# Altium schematic symbol library dungvh03-CERN_Logic.SchLib: 486 symbols (part 18 of 54)
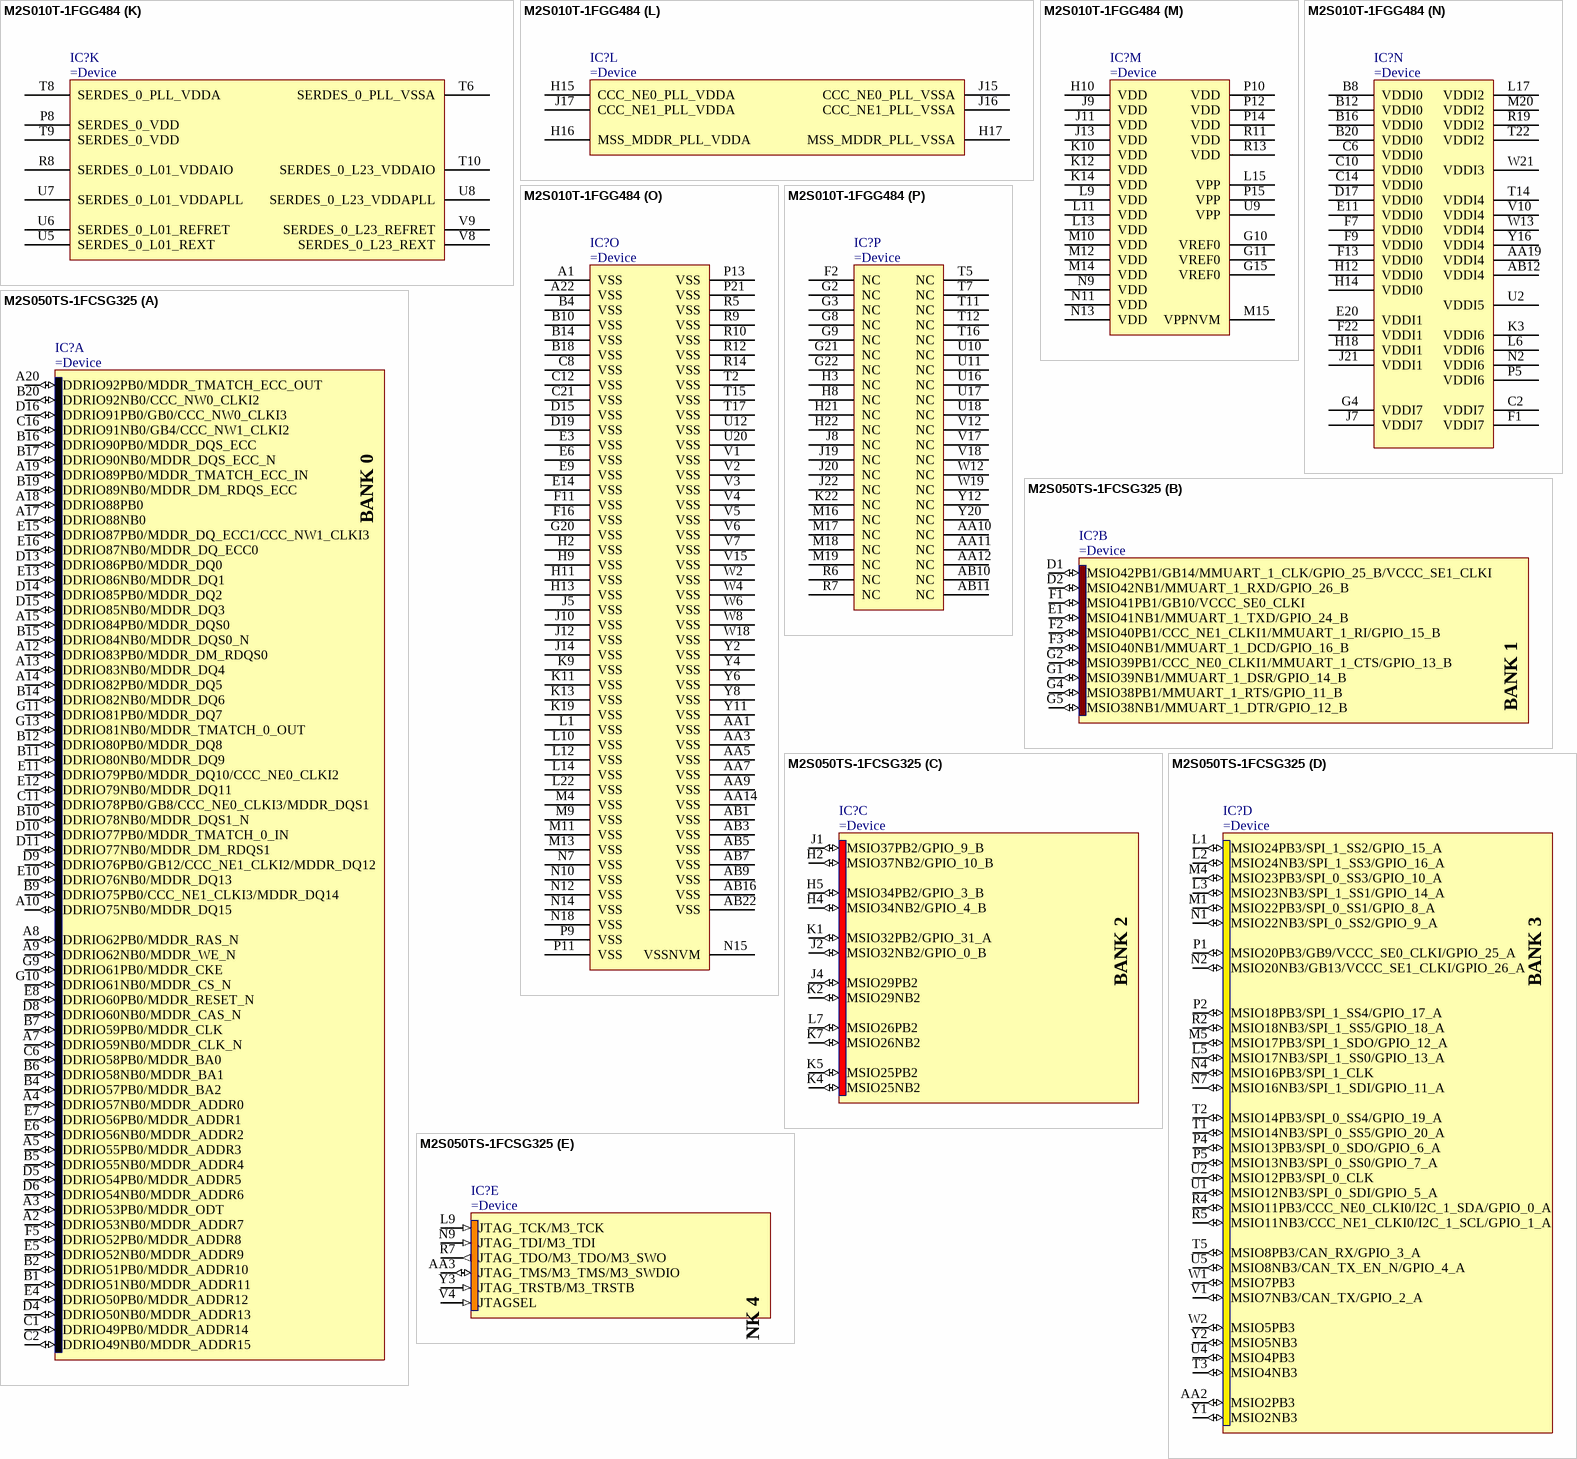
[diagram p278: symbols M2S010T-1FGG484 to M2S050TS-1FCSG325]
## M2S010T-1FGG484
designator IC?
SmartFusion 2 SoC FPGA, ARM Cortex-M3, 10 K LUTs, 233 User I/O, Transceiver Available, Design Security, Speed Grade 1, 0 to 85 degC, RoHS
part A pins: A3 DDRIO63NB0 (io) "The double data input output (DDRIO) is a multi-standard I/O optimized for LPDDR/DDR2/DDR3 performance. In SmartFusion2 devices there are two DDR subsystems: the fabric DDR and MSS DDR controllers. All DDRIOs can be (See Datasheet)", A4 DDRIO63PB0 (io) "The double data input output (DDRIO) is a multi-standard I/O optimized for LPDDR/DDR2/DDR3 performance. In SmartFusion2 devices there are two DDR subsystems: the fabric DDR and MSS DDR controllers. All DDRIOs can be (See Datasheet)", A5 DDRIO62NB0 (io) "The double data input output (DDRIO) is a multi-standard I/O optimized for LPDDR/DDR2/DDR3 performance. In SmartFusion2 devices there are two DDR subsystems: the fabric DDR and MSS DDR controllers. All DDRIOs can be (See Datasheet)", A6 DDRIO59NB0/GB4 (io), A7 DDRIO56PB0/MDDR_DQ_ECC1 (io), A8 DDRIO56NB0/MDDR_DQ_ECC0 (io), A9 DDRIO54NB0/MDDR_DQ1 (io), A10 DDRIO51PB0/MDDR_DM_RDQS0 (io), A11 DDRIO51NB0/MDDR_DQ4 (io), A12 DDRIO48PB0/MDDR_DQ8 (io), A13 DDRIO48NB0/MDDR_DQ9 (io), A14 DDRIO44PB0/MDDR_DQ12 (io), A15 DDRIO44NB0/MDDR_DQ13 (io), A16 DDRIO39PB0/MDDR_CLK (io), A17 DDRIO39NB0/MDDR_CLK_N (io), A18 DDRIO38PB0/MDDR_BA0 (io), A19 DDRIO38NB0/MDDR_BA1 (io), A20 DDRIO34NB0/MDDR_ADDR6 (io), A21 DDRIO31PB0/MDDR_ADDR10 (io), B5 DDRIO62PB0 (io) "The double data input output (DDRIO) is a multi-standard I/O optimized for LPDDR/DDR2/DDR3 performance. In SmartFusion2 devices there are two DDR subsystems: the fabric DDR and MSS DDR controllers. All DDRIOs can be (See Datasheet)", B6 DDRIO59PB0/GB0 (io), B7 DDRIO58NB0/MDDR_DQS_ECC_N (io), B9 DDRIO54PB0/MDDR_DQ0 (io), B11 DDRIO52PB0/MDDR_DQS0 (io), B13 DDRIO46PB0/MDDR_DQS1 (io), B15 DDRIO41PB0/MDDR_CKE (io), B17 DDRIO37NB0/MDDR_ADDR0 (io), B19 DDRIO34PB0/MDDR_ADDR5 (io), B21 DDRIO31NB0/MDDR_ADDR11 (io), C5 DDRIO61PB0 (io) "The double data input output (DDRIO) is a multi-standard I/O optimized for LPDDR/DDR2/DDR3 performance. In SmartFusion2 devices there are two DDR subsystems: the fabric DDR and MSS DDR controllers. All DDRIOs can be (See Datasheet)", C7 DDRIO58PB0/MDDR_DQS_ECC (io), C9 DDRIO55NB0 (io) "The double data input output (DDRIO) is a multi-standard I/O optimized for LPDDR/DDR2/DDR3 performance. In SmartFusion2 devices there are two DDR subsystems: the fabric DDR and MSS DDR controllers. All DDRIOs can be (See Datasheet)", C11 DDRIO52NB0/MDDR_DQS0_N (io), C13 DDRIO46NB0/MDDR_DQS1_N (io), C15 DDRIO41NB0/MDDR_CS_N (io), C16 DDRIO37PB0/MDDR_BA2 (io), C17 DDRIO35PB0/MDDR_ADDR3 (io), C18 DDRIO35NB0/MDDR_ADDR4 (io), C19 DDRIO33NB0/MDDR_ADDR7 (io), C20 DDRIO33PB0/MDDR_ODT (io), D6 DDRIO61NB0 (io) "The double data input output (DDRIO) is a multi-standard I/O optimized for LPDDR/DDR2/DDR3 performance. In SmartFusion2 devices there are two DDR subsystems: the fabric DDR and MSS DDR controllers. All DDRIOs can be (See Datasheet)", D8 DDRIO57NB0/MDDR_DM_RDQS_ECC (io), D9 DDRIO55PB0/CCC_NE0_CLKI3 (io), D10 DDRIO50PB0/MDDR_DQ5 (io), D11 DDRIO50NB0/MDDR_DQ6 (io), D12 DDRIO47PB0/MDDR_DQ10 (io), D13 DDRIO47NB0/MDDR_DQ11 (io), D14 DDRIO43PB0/MDDR_DQ14 (io), D16 DDRIO36PB0/MDDR_ADDR1 (io), D18 DDRIO29PB0/MDDR_ADDR14 (io), D20 DDRIO30NB0/MDDR_ADDR13 (io), E7 DDRIO60PB0/MDDR_TMATCH_ECC_OUT (io), E8 DDRIO57PB0/MDDR_TMATCH_ECC_IN (io), E10 DDRIO53NB0/MDDR_DQ3 (io), E12 DDRIO49PB0/MDDR_DQ7 (io), E13 DDRIO43NB0/MDDR_DQ15 (io), E15 DDRIO40PB0/MDDR_RESET_N (io), E16 DDRIO36NB0/MDDR_ADDR2 (io), E17 DDRIO32PB0/MDDR_ADDR8 (io), E18 DDRIO29NB0/MDDR_ADDR15 (io), E19 DDRIO30PB0/MDDR_ADDR12 (io), F8 DDRIO60NB0/CCC_NE1_CLKI3 (io), F10 DDRIO53PB0/MDDR_DQ2 (io), F12 DDRIO49NB0/MDDR_TMATCH_0_OUT (io), F14 DDRIO42PB0/MDDR_RAS_N (io), F15 DDRIO40NB0/MDDR_CAS_N (io), F17 DDRIO32NB0/MDDR_ADDR9 (io), G12 DDRIO45PB0/MDDR_TMATCH_0_IN (io), G13 DDRIO45NB0/MDDR_DM_RDQS1 (io), G14 DDRIO42NB0/MDDR_WE_N (io)
part B pins: B22 MSIO27NB1/MMUART_0_CLK/GPIO_29_B/USB_NXT_C (io), C22 MSIO27PB1/MMUART_0_RXD/GPIO_28_B/USB_STP_C (io), D21 MSI26NB1/MMUART_0_TXD/GPIO_27_B/USB_DIR_C (io), E21 MSIO25NB1/MMUART_0_DCD/GPIO_22_B (io), E22 MSIO25PB1/MMUART_0_RI/GPIO_21_B (io), F18 MSIO24NB1/MMUART_0_DSR/GPIO_20_B (io), F19 MSIO24PB1/MMUART_0_CTS/GPIO_19_B/USB_DATA7_C (io), F20 MSIO23NB1/MMUART_0_DTR/GPIO_18_B/USB_DATA6_C (io), F21 MSIO23PB1/MMUART_0_RTS/GPIO_17_B/USB_DATA5_C (io), G16 MSIO28NB1/I2C_0_SCL/GPIO_31_B/USB_DATA1_C (io), G17 MSIO28PB1/I2C_0_SDA/GPIO_30_B/USB_DATA0_C (io), G18 MSIO22NB1/MMUART_1_RXD/GPIO_26_B/USB_DATA3_C (io), G19 MSIO22PB1/GB6/MMUART_1_CLK/GPIO_25_B/USB_DATA4_C (io), H19 MSIO21NB1/MMUART_1_TXD/GPIO_24_B/USB_DATA2_C (io), H20 MSIO21PB1/GB5/USB_XCLK_C (io)
part C pins: J18 MSIO20NB2/SPI_1_SS3/GPIO_16_A (io), K15 MSIO18NB2/SPI_0_SS2/GPIO_9_A/USB_DATA6_A (io), K16 MSIO19NB2/SPI_1_SS1/GPIO_14_A (io), K17 MSIO19PB2/SPI_0_SS3/GPIO_10_A/USB_DATA7_A (io), K18 MSIO20PB2/SPI_1_SS2/GPIO_15_A (io), K20 MSIO17NB2/SPI_1_SS7/GPIO_24_A (io), K21 MSIO17PB2/SPI_1_SS6/GPIO_23_A (io), L16 MSIO18PB2/SPI_0_SS1/GPIO_8_A/USB_DATA5_A (io), L18 MSIO16NB2/SPI_1_SS5/GPIO_18_A (io), L19 MSIO16PB2/SPI_1_SS4/GPIO_17_A (io), L20 MSIO15NB2/SPI_1_SS0/GPIO_13_A (io), L21 MSIO15PB2/SPI_1_SDO/GPIO_12_A (io), M21 MSIO14PB2/SPI_1_CLK (io), M22 MSIO14NB2/SPI_1_SDI/GPIO_11_A (io), N16 MSIO8PB2/CAN_RX/GPIO_3_A/USB_DATA1_A (io), N17 MSIO8NB2/CAN_TX_EN_N/GPIO_4_A/USB_DATA2_A (io), N19 MSIO12PB2/SPI_0_CLK/USB_XCLK_A (io), N20 MSIO12NB2/SPI_0_SDI/GPIO_5_A/USB_DIR_A (io), N21 MSIO13PB2/SPI_0_SDO/GPIO_6_A/USB_STP_A (io), N22 MSIO13NB2/SPI_0_SS0/GPIO_7_A/USB_NXT_A (io), P16 MSIO7NB2/CAN_TX/GPIO_2_A/USB_DATA0_A (io), P17 MSIO6PB2/USB_DATA6_B (io), P18 MSIO6NB2 (io) "MSIOs provide programmable drive strength, weak pull-up, and weak-pulldown.In single ended mode, the I/O pair operates as two separate I/Os named P and N. Some of these pins are also multiplexed with integrated peripherals (See Datasheet)", P22 MSIO11PB2/CCC_NE0_CLKI1/I2C_1_SDA/GPIO_0_A/USB_DATA3_A (io), R16 MSIO7PB2 (io) "MSIOs provide programmable drive strength, weak pull-up, and weak-pulldown.In single ended mode, the I/O pair operates as two separate I/Os named P and N. Some of these pins are also multiplexed with integrated peripherals (See Datasheet)", R17 MSIO1PB2/USB_XCLK_B (io), R18 MSIO1NB2/USB_DIR_B (io), R22 MSIO11NB2/CCC_NE0_CLKI2/I2C_1_SCL/GPIO_1_A/USB_DATA4_A (io), T18 MSIO2PB2/USB_STP_B (io), T19 MSIO2NB2/USB_NXT_B (io), T20 MSIO5PB2/USB_DATA4_B (io), T21 MSIO5NB2/USB_DATA5_B (io), U19 MSIO0PB2 (io) "MSIOs provide programmable drive strength, weak pull-up, and weak-pulldown.In single ended mode, the I/O pair operates as two separate I/Os named P and N. Some of these pins are also multiplexed with integrated peripherals (See Datasheet)", U21 MSIO4NB2/USB_DATA3_B (io), U22 MSIO4PB2/USB_DATA2_B (io), V19 MSIO0NB2/USB_DATA7_B (io), V21 MSIO3NB2/USB_DATA1_B (io), V22 MSIO3PB2/USB_DATA0_B (io)
part D pins: AA13 MSIO106PB4 (io) "MSIOs provide programmable drive strength, weak pull-up, and weak-pulldown.In single ended mode, the I/O pair operates as two separate I/Os named P and N. Some of these pins are also multiplexed with integrated peripherals (See Datasheet)", AA15 MSIO110NB4 (io) "MSIOs provide programmable drive strength, weak pull-up, and weak-pulldown.In single ended mode, the I/O pair operates as two separate I/Os named P and N. Some of these pins are also multiplexed with integrated peripherals (See Datasheet)", AA16 MSIO114PB4 (io) "MSIOs provide programmable drive strength, weak pull-up, and weak-pulldown.In single ended mode, the I/O pair operates as two separate I/Os named P and N. Some of these pins are also multiplexed with integrated peripherals (See Datasheet)", AA17 MSIO114NB4 (io) "MSIOs provide programmable drive strength, weak pull-up, and weak-pulldown.In single ended mode, the I/O pair operates as two separate I/Os named P and N. Some of these pins are also multiplexed with integrated peripherals (See Datasheet)", AA18 MSIO113NB4 (io) "MSIOs provide programmable drive strength, weak pull-up, and weak-pulldown.In single ended mode, the I/O pair operates as two separate I/Os named P and N. Some of these pins are also multiplexed with integrated peripherals (See Datasheet)", AB13 MSIO105PB4/CCC_NE0_CLKI0 (io), AB14 MSIO105NB4 (io) "MSIOs provide programmable drive strength, weak pull-up, and weak-pulldown.In single ended mode, the I/O pair operates as two separate I/Os named P and N. Some of these pins are also multiplexed with integrated peripherals (See Datasheet)", AB15 MSIO110PB4 (io) "MSIOs provide programmable drive strength, weak pull-up, and weak-pulldown.In single ended mode, the I/O pair operates as two separate I/Os named P and N. Some of these pins are also multiplexed with integrated peripherals (See Datasheet)", AB17 MSIO113PB4 (io) "MSIOs provide programmable drive strength, weak pull-up, and weak-pulldown.In single ended mode, the I/O pair operates as two separate I/Os named P and N. Some of these pins are also multiplexed with integrated peripherals (See Datasheet)", AB18 MSIO118PB4 (io) "MSIOs provide programmable drive strength, weak pull-up, and weak-pulldown.In single ended mode, the I/O pair operates as two separate I/Os named P and N. Some of these pins are also multiplexed with integrated peripherals (See Datasheet)", AB19 MSIO118NB4 (io) "MSIOs provide programmable drive strength, weak pull-up, and weak-pulldown.In single ended mode, the I/O pair operates as two separate I/Os named P and N. Some of these pins are also multiplexed with integrated peripherals (See Datasheet)", T13 MSIO107NB4 (io) "MSIOs provide programmable drive strength, weak pull-up, and weak-pulldown.In single ended mode, the I/O pair operates as two separate I/Os named P and N. Some of these pins are also multiplexed with integrated peripherals (See Datasheet)", U13 MSIO107PB4 (io) "MSIOs provide programmable drive strength, weak pull-up, and weak-pulldown.In single ended mode, the I/O pair operates as two separate I/Os named P and N. Some of these pins are also multiplexed with integrated peripherals (See Datasheet)", U14 MSIO112PB4 (io) "MSIOs provide programmable drive strength, weak pull-up, and weak-pulldown.In single ended mode, the I/O pair operates as two separate I/Os named P and N. Some of these pins are also multiplexed with integrated peripherals (See Datasheet)", U15 MSIO112NB4 (io) "MSIOs provide programmable drive strength, weak pull-up, and weak-pulldown.In single ended mode, the I/O pair operates as two separate I/Os named P and N. Some of these pins are also multiplexed with integrated peripherals (See Datasheet)", V11 MSIO104PB4/GB3 (io), V13 MSIO108PB4 (io) "MSIOs provide programmable drive strength, weak pull-up, and weak-pulldown.In single ended mode, the I/O pair operates as two separate I/Os named P and N. Some of these pins are also multiplexed with integrated peripherals (See Datasheet)", V14 MSIO108NB4 (io) "MSIOs provide programmable drive strength, weak pull-up, and weak-pulldown.In single ended mode, the I/O pair operates as two separate I/Os named P and N. Some of these pins are also multiplexed with integrated peripherals (See Datasheet)", V16 MSIO115NB4 (io) "MSIOs provide programmable drive strength, weak pull-up, and weak-pulldown.In single ended mode, the I/O pair operates as two separate I/Os named P and N. Some of these pins are also multiplexed with integrated peripherals (See Datasheet)", W9 MSIO102PB4 (io) "MSIOs provide programmable drive strength, weak pull-up, and weak-pulldown.In single ended mode, the I/O pair operates as two separate I/Os named P and N. Some of these pins are also multiplexed with integrated peripherals (See Datasheet)", W10 MSIO103PB4/PROBE_A (io), W11 MSIO104NB4/GB7 (io), W14 MSIO109NB4 (io) "MSIOs provide programmable drive strength, weak pull-up, and weak-pulldown.In single ended mode, the I/O pair operates as two separate I/Os named P and N. Some of these pins are also multiplexed with integrated peripherals (See Datasheet)", W15 MSIO111NB4 (io) "MSIOs provide programmable drive strength, weak pull-up, and weak-pulldown.In single ended mode, the I/O pair operates as two separate I/Os named P and N. Some of these pins are also multiplexed with integrated peripherals (See Datasheet)", W16 MSIO115PB4 (io) "MSIOs provide programmable drive strength, weak pull-up, and weak-pulldown.In single ended mode, the I/O pair operates as two separate I/Os named P and N. Some of these pins are also multiplexed with integrated peripherals (See Datasheet)", W17 MSIO116NB4 (io) "MSIOs provide programmable drive strength, weak pull-up, and weak-pulldown.In single ended mode, the I/O pair operates as two separate I/Os named P and N. Some of these pins are also multiplexed with integrated peripherals (See Datasheet)", Y9 MSIO102NB4/CCC_NE1_CLKI0 (io), Y10 MSIO103NB4/PROBE_B (io), Y13 MSIO106NB4 (io) "MSIOs provide programmable drive strength, weak pull-up, and weak-pulldown.In single ended mode, the I/O pair operates as two separate I/Os named P and N. Some of these pins are also multiplexed with integrated peripherals (See Datasheet)", Y14 MSIO109PB4 (io) "MSIOs provide programmable drive strength, weak pull-up, and weak-pulldown.In single ended mode, the I/O pair operates as two separate I/Os named P and N. Some of these pins are also multiplexed with integrated peripherals (See Datasheet)", Y15 MSIO111PB4 (io) "MSIOs provide programmable drive strength, weak pull-up, and weak-pulldown.In single ended mode, the I/O pair operates as two separate I/Os named P and N. Some of these pins are also multiplexed with integrated peripherals (See Datasheet)", Y17 MSIO116PB4 (io) "MSIOs provide programmable drive strength, weak pull-up, and weak-pulldown.In single ended mode, the I/O pair operates as two separate I/Os named P and N. Some of these pins are also multiplexed with integrated peripherals (See Datasheet)", Y18 MSIO117PB4 (io) "MSIOs provide programmable drive strength, weak pull-up, and weak-pulldown.In single ended mode, the I/O pair operates as two separate I/Os named P and N. Some of these pins are also multiplexed with integrated peripherals (See Datasheet)", Y19 MSIO117NB4 (io) "MSIOs provide programmable drive strength, weak pull-up, and weak-pulldown.In single ended mode, the I/O pair operates as two separate I/Os named P and N. Some of these pins are also multiplexed with integrated peripherals (See Datasheet)"
part E pins: T1 MSIOD100NB5/SERDES_0_REFCLK0_N (io), U1 MSIOD100PB5/SERDES_0_REFCLK0_P (io), U3 MSIOD101PB5/SERDES_0_REFCLK1_P (io), U4 MSIOD101NB5/SERDES_0_REFCLK1_N (io)
part F pins: K1 MSIOD85PB6/CCC_NE1_CLKI1 (io), K2 MSIOD85NB6 (io) "MSIOD is very similar to MSIO, but drops 3.3 V and hot-plug support and adds pre-emphasis, in order to achieve higher speeds. MSIODs provide programmable drive strength, weak pull-up, and weak pull-down. MSIOD I/O cells (See Datasheet)", K4 MSIOD82PB6 (io) "MSIOD is very similar to MSIO, but drops 3.3 V and hot-plug support and adds pre-emphasis, in order to achieve higher speeds. MSIODs provide programmable drive strength, weak pull-up, and weak pull-down. MSIOD I/O cells (See Datasheet)", K5 MSIOD82NB6 (io) "MSIOD is very similar to MSIO, but drops 3.3 V and hot-plug support and adds pre-emphasis, in order to achieve higher speeds. MSIODs provide programmable drive strength, weak pull-up, and weak pull-down. MSIOD I/O cells (See Datasheet)", K8 MSIOD83PB6 (io) "MSIOD is very similar to MSIO, but drops 3.3 V and hot-plug support and adds pre-emphasis, in order to achieve higher speeds. MSIODs provide programmable drive strength, weak pull-up, and weak pull-down. MSIOD I/O cells (See Datasheet)", L2 MSIOD86PB6 (io) "MSIOD is very similar to MSIO, but drops 3.3 V and hot-plug support and adds pre-emphasis, in order to achieve higher speeds. MSIODs provide programmable drive strength, weak pull-up, and weak pull-down. MSIOD I/O cells (See Datasheet)", L3 MSIOD86NB6 (io) "MSIOD is very similar to MSIO, but drops 3.3 V and hot-plug support and adds pre-emphasis, in order to achieve higher speeds. MSIODs provide programmable drive strength, weak pull-up, and weak pull-down. MSIOD I/O cells (See Datasheet)", L4 MSIOD87PB6 (io) "MSIOD is very similar to MSIO, but drops 3.3 V and hot-plug support and adds pre-emphasis, in order to achieve higher speeds. MSIODs provide programmable drive strength, weak pull-up, and weak pull-down. MSIOD I/O cells (See Datasheet)", L5 MSIOD87NB6 (io) "MSIOD is very similar to MSIO, but drops 3.3 V and hot-plug support and adds pre-emphasis, in order to achieve higher speeds. MSIODs provide programmable drive strength, weak pull-up, and weak pull-down. MSIOD I/O cells (See Datasheet)", L7 MSIOD84NB6 (io) "MSIOD is very similar to MSIO, but drops 3.3 V and hot-plug support and adds pre-emphasis, in order to achieve higher speeds. MSIODs provide programmable drive strength, weak pull-up, and weak pull-down. MSIOD I/O cells (See Datasheet)", L8 MSIOD83NB6 (io) "MSIOD is very similar to MSIO, but drops 3.3 V and hot-plug support and adds pre-emphasis, in order to achieve higher speeds. MSIODs provide programmable drive strength, weak pull-up, and weak pull-down. MSIOD I/O cells (See Datasheet)", M1 MSIOD92NB6 (io) "MSIOD is very similar to MSIO, but drops 3.3 V and hot-plug support and adds pre-emphasis, in order to achieve higher speeds. MSIODs provide programmable drive strength, weak pull-up, and weak pull-down. MSIOD I/O cells (See Datasheet)", M2 MSIOD90NB6 (io) "MSIOD is very similar to MSIO, but drops 3.3 V and hot-plug support and adds pre-emphasis, in order to achieve higher speeds. MSIODs provide programmable drive strength, weak pull-up, and weak pull-down. MSIOD I/O cells (See Datasheet)", M3 MSIOD90PB6 (io) "MSIOD is very similar to MSIO, but drops 3.3 V and hot-plug support and adds pre-emphasis, in order to achieve higher speeds. MSIODs provide programmable drive strength, weak pull-up, and weak pull-down. MSIOD I/O cells (See Datasheet)", M5 MSIOD88PB6 (io) "MSIOD is very similar to MSIO, but drops 3.3 V and hot-plug support and adds pre-emphasis, in order to achieve higher speeds. MSIODs provide programmable drive strength, weak pull-up, and weak pull-down. MSIOD I/O cells (See Datasheet)", M6 MSIOD88NB6 (io) "MSIOD is very similar to MSIO, but drops 3.3 V and hot-plug support and adds pre-emphasis, in order to achieve higher speeds. MSIODs provide programmable drive strength, weak pull-up, and weak pull-down. MSIOD I/O cells (See Datasheet)", M7 MSIOD84PB6/CCC_NE1_CLKI2 (io), M8 MSIOD95NB6 (io) "MSIOD is very similar to MSIO, but drops 3.3 V and hot-plug support and adds pre-emphasis, in order to achieve higher speeds. MSIODs provide programmable drive strength, weak pull-up, and weak pull-down. MSIOD I/O cells (See Datasheet)", N1 MSIOD92PB6 (io) "MSIOD is very similar to MSIO, but drops 3.3 V and hot-plug support and adds pre-emphasis, in order to achieve higher speeds. MSIODs provide programmable drive strength, weak pull-up, and weak pull-down. MSIOD I/O cells (See Datasheet)", N3 MSIOD91PB6 (io) "MSIOD is very similar to MSIO, but drops 3.3 V and hot-plug support and adds pre-emphasis, in order to achieve higher speeds. MSIODs provide programmable drive strength, weak pull-up, and weak pull-down. MSIOD I/O cells (See Datasheet)", N4 MSIOD91NB6 (io) "MSIOD is very similar to MSIO, but drops 3.3 V and hot-plug support and adds pre-emphasis, in order to achieve higher speeds. MSIODs provide programmable drive strength, weak pull-up, and weak pull-down. MSIOD I/O cells (See Datasheet)", N5 MSIOD89PB6 (io) "MSIOD is very similar to MSIO, but drops 3.3 V and hot-plug support and adds pre-emphasis, in order to achieve higher speeds. MSIODs provide programmable drive strength, weak pull-up, and weak pull-down. MSIOD I/O cells (See Datasheet)", N6 MSIOD89NB6 (io) "MSIOD is very similar to MSIO, but drops 3.3 V and hot-plug support and adds pre-emphasis, in order to achieve higher speeds. MSIODs provide programmable drive strength, weak pull-up, and weak pull-down. MSIOD I/O cells (See Datasheet)", N8 MSIOD95PB6 (io) "MSIOD is very similar to MSIO, but drops 3.3 V and hot-plug support and adds pre-emphasis, in order to achieve higher speeds. MSIODs provide programmable drive strength, weak pull-up, and weak pull-down. MSIOD I/O cells (See Datasheet)", P1 MSIOD94PB6 (io) "MSIOD is very similar to MSIO, but drops 3.3 V and hot-plug support and adds pre-emphasis, in order to achieve higher speeds. MSIODs provide programmable drive strength, weak pull-up, and weak pull-down. MSIOD I/O cells (See Datasheet)", P2 MSIOD94NB6 (io) "MSIOD is very similar to MSIO, but drops 3.3 V and hot-plug support and adds pre-emphasis, in order to achieve higher speeds. MSIODs provide programmable drive strength, weak pull-up, and weak pull-down. MSIOD I/O cells (See Datasheet)", P3 MSIOD93NB6 (io) "MSIOD is very similar to MSIO, but drops 3.3 V and hot-plug support and adds pre-emphasis, in order to achieve higher speeds. MSIODs provide programmable drive strength, weak pull-up, and weak pull-down. MSIOD I/O cells (See Datasheet)", P4 MSIOD93PB6 (io) "MSIOD is very similar to MSIO, but drops 3.3 V and hot-plug support and adds pre-emphasis, in order to achieve higher speeds. MSIODs provide programmable drive strength, weak pull-up, and weak pull-down. MSIOD I/O cells (See Datasheet)", P6 MSIOD96PB6 (io) "MSIOD is very similar to MSIO, but drops 3.3 V and hot-plug support and adds pre-emphasis, in order to achieve higher speeds. MSIODs provide programmable drive strength, weak pull-up, and weak pull-down. MSIOD I/O cells (See Datasheet)", P7 MSIOD96NB6 (io) "MSIOD is very similar to MSIO, but drops 3.3 V and hot-plug support and adds pre-emphasis, in order to achieve higher speeds. MSIODs provide programmable drive strength, weak pull-up, and weak pull-down. MSIOD I/O cells (See Datasheet)", R1 MSIOD97NB6 (io) "MSIOD is very similar to MSIO, but drops 3.3 V and hot-plug support and adds pre-emphasis, in order to achieve higher speeds. MSIODs provide programmable drive strength, weak pull-up, and weak pull-down. MSIOD I/O cells (See Datasheet)", R2 MSIOD97PB6 (io) "MSIOD is very similar to MSIO, but drops 3.3 V and hot-plug support and adds pre-emphasis, in order to achieve higher speeds. MSIODs provide programmable drive strength, weak pull-up, and weak pull-down. MSIOD I/O cells (See Datasheet)", R3 MSIOD98PB6 (io) "MSIOD is very similar to MSIO, but drops 3.3 V and hot-plug support and adds pre-emphasis, in order to achieve higher speeds. MSIODs provide programmable drive strength, weak pull-up, and weak pull-down. MSIOD I/O cells (See Datasheet)", R4 MSIOD98NB6 (io) "MSIOD is very similar to MSIO, but drops 3.3 V and hot-plug support and adds pre-emphasis, in order to achieve higher speeds. MSIODs provide programmable drive strength, weak pull-up, and weak pull-down. MSIOD I/O cells (See Datasheet)", T3 MSIOD99NB6 (io) "MSIOD is very similar to MSIO, but drops 3.3 V and hot-plug support and adds pre-emphasis, in order to achieve higher speeds. MSIODs provide programmable drive strength, weak pull-up, and weak pull-down. MSIOD I/O cells (See Datasheet)", T4 MSIOD99PB6 (io) "MSIOD is very similar to MSIO, but drops 3.3 V and hot-plug support and adds pre-emphasis, in order to achieve higher speeds. MSIODs provide programmable drive strength, weak pull-up, and weak pull-down. MSIOD I/O cells (See Datasheet)"
part G pins: A2 MSIO69NB7 (io) "MSIOs provide programmable drive strength, weak pull-up, and weak-pulldown.In single ended mode, the I/O pair operates as two separate I/Os named P and N. Some of these pins are also multiplexed with integrated peripherals (See Datasheet)", B1 MSIO71NB7 (io) "MSIOs provide programmable drive strength, weak pull-up, and weak-pulldown.In single ended mode, the I/O pair operates as two separate I/Os named P and N. Some of these pins are also multiplexed with integrated peripherals (See Datasheet)", B2 MSIO69PB7 (io) "MSIOs provide programmable drive strength, weak pull-up, and weak-pulldown.In single ended mode, the I/O pair operates as two separate I/Os named P and N. Some of these pins are also multiplexed with integrated peripherals (See Datasheet)", B3 MSIO65NB7 (io) "MSIOs provide programmable drive strength, weak pull-up, and weak-pulldown.In single ended mode, the I/O pair operates as two separate I/Os named P and N. Some of these pins are also multiplexed with integrated peripherals (See Datasheet)", C1 MSIO71PB7 (io) "MSIOs provide programmable drive strength, weak pull-up, and weak-pulldown.In single ended mode, the I/O pair operates as two separate I/Os named P and N. Some of these pins are also multiplexed with integrated peripherals (See Datasheet)", C3 MSIO65PB7 (io) "MSIOs provide programmable drive strength, weak pull-up, and weak-pulldown.In single ended mode, the I/O pair operates as two separate I/Os named P and N. Some of these pins are also multiplexed with integrated peripherals (See Datasheet)", C4 MSIO64PB7 (io) "MSIOs provide programmable drive strength, weak pull-up, and weak-pulldown.In single ended mode, the I/O pair operates as two separate I/Os named P and N. Some of these pins are also multiplexed with integrated peripherals (See Datasheet)", D1 MSIO72PB7 (io) "MSIOs provide programmable drive strength, weak pull-up, and weak-pulldown.In single ended mode, the I/O pair operates as two separate I/Os named P and N. Some of these pins are also multiplexed with integrated peripherals (See Datasheet)", D2 MSIO72NB7 (io) "MSIOs provide programmable drive strength, weak pull-up, and weak-pulldown.In single ended mode, the I/O pair operates as two separate I/Os named P and N. Some of these pins are also multiplexed with integrated peripherals (See Datasheet)", D3 MSIO68PB7 (io) "MSIOs provide programmable drive strength, weak pull-up, and weak-pulldown.In single ended mode, the I/O pair operates as two separate I/Os named P and N. Some of these pins are also multiplexed with integrated peripherals (See Datasheet)", D4 MSIO68NB7 (io) "MSIOs provide programmable drive strength, weak pull-up, and weak-pulldown.In single ended mode, the I/O pair operates as two separate I/Os named P and N. Some of these pins are also multiplexed with integrated peripherals (See Datasheet)", D5 MSIO64NB7 (io) "MSIOs provide programmable drive strength, weak pull-up, and weak-pulldown.In single ended mode, the I/O pair operates as two separate I/Os named P and N. Some of these pins are also multiplexed with integrated peripherals (See Datasheet)", E1 MSIO73PB7 (io) "MSIOs provide programmable drive strength, weak pull-up, and weak-pulldown.In single ended mode, the I/O pair operates as two separate I/Os named P and N. Some of these pins are also multiplexed with integrated peripherals (See Datasheet)", E2 MSIO73NB7 (io) "MSIOs provide programmable drive strength, weak pull-up, and weak-pulldown.In single ended mode, the I/O pair operates as two separate I/Os named P and N. Some of these pins are also multiplexed with integrated peripherals (See Datasheet)", E4 MSIO70PB7 (io) "MSIOs provide programmable drive strength, weak pull-up, and weak-pulldown.In single ended mode, the I/O pair operates as two separate I/Os named P and N. Some of these pins are also multiplexed with integrated peripherals (See Datasheet)", E5 MSIO70NB7 (io) "MSIOs provide programmable drive strength, weak pull-up, and weak-pulldown.In single ended mode, the I/O pair operates as two separate I/Os named P and N. Some of these pins are also multiplexed with integrated peripherals (See Datasheet)", F3 MSIO74PB7 (io) "MSIOs provide programmable drive strength, weak pull-up, and weak-pulldown.In single ended mode, the I/O pair operates as two separate I/Os named P and N. Some of these pins are also multiplexed with integrated peripherals (See Datasheet)", F4 MSIO74NB7 (io) "MSIOs provide programmable drive strength, weak pull-up, and weak-pulldown.In single ended mode, the I/O pair operates as two separate I/Os named P and N. Some of these pins are also multiplexed with integrated peripherals (See Datasheet)", F5 MSIO67PB7 (io) "MSIOs provide programmable drive strength, weak pull-up, and weak-pulldown.In single ended mode, the I/O pair operates as two separate I/Os named P and N. Some of these pins are also multiplexed with integrated peripherals (See Datasheet)", F6 MSIO67NB7 (io) "MSIOs provide programmable drive strength, weak pull-up, and weak-pulldown.In single ended mode, the I/O pair operates as two separate I/Os named P and N. Some of these pins are also multiplexed with integrated peripherals (See Datasheet)", G1 MSIO78NB7 (io) "MSIOs provide programmable drive strength, weak pull-up, and weak-pulldown.In single ended mode, the I/O pair operates as two separate I/Os named P and N. Some of these pins are also multiplexed with integrated peripherals (See Datasheet)", G5 MSIO66PB7 (io) "MSIOs provide programmable drive strength, weak pull-up, and weak-pulldown.In single ended mode, the I/O pair operates as two separate I/Os named P and N. Some of these pins are also multiplexed with integrated peripherals (See Datasheet)", G6 MSIO66NB7 (io) "MSIOs provide programmable drive strength, weak pull-up, and weak-pulldown.In single ended mode, the I/O pair operates as two separate I/Os named P and N. Some of these pins are also multiplexed with integrated peripherals (See Datasheet)", G7 MSIO75NB7 (io) "MSIOs provide programmable drive strength, weak pull-up, and weak-pulldown.In single ended mode, the I/O pair operates as two separate I/Os named P and N. Some of these pins are also multiplexed with integrated peripherals (See Datasheet)", H1 MSIO78PB7/GB2 (io), H4 MSIO77PB7 (io) "MSIOs provide programmable drive strength, weak pull-up, and weak-pulldown.In single ended mode, the I/O pair operates as two separate I/Os named P and N. Some of these pins are also multiplexed with integrated peripherals (See Datasheet)", H5 MSIO77NB7 (io) "MSIOs provide programmable drive strength, weak pull-up, and weak-pulldown.In single ended mode, the I/O pair operates as two separate I/Os named P and N. Some of these pins are also multiplexed with integrated peripherals (See Datasheet)", H6 MSIO76PB7 (io) "MSIOs provide programmable drive strength, weak pull-up, and weak-pulldown.In single ended mode, the I/O pair operates as two separate I/Os named P and N. Some of these pins are also multiplexed with integrated peripherals (See Datasheet)", H7 MSIO75PB7 (io) "MSIOs provide programmable drive strength, weak pull-up, and weak-pulldown.In single ended mode, the I/O pair operates as two separate I/Os named P and N. Some of these pins are also multiplexed with integrated peripherals (See Datasheet)", J1 MSIO80PB7 (io) "MSIOs provide programmable drive strength, weak pull-up, and weak-pulldown.In single ended mode, the I/O pair operates as two separate I/Os named P and N. Some of these pins are also multiplexed with integrated peripherals (See Datasheet)", J2 MSIO80NB7 (io) "MSIOs provide programmable drive strength, weak pull-up, and weak-pulldown.In single ended mode, the I/O pair operates as two separate I/Os named P and N. Some of these pins are also multiplexed with integrated peripherals (See Datasheet)", J3 MSIO79PB7/GB1 (io), J4 MSIO79NB7 (io) "MSIOs provide programmable drive strength, weak pull-up, and weak-pulldown.In single ended mode, the I/O pair operates as two separate I/Os named P and N. Some of these pins are also multiplexed with integrated peripherals (See Datasheet)", J6 MSIO76NB7 (io) "MSIOs provide programmable drive strength, weak pull-up, and weak-pulldown.In single ended mode, the I/O pair operates as two separate I/Os named P and N. Some of these pins are also multiplexed with integrated peripherals (See Datasheet)", K6 MSIO81PB7 (io) "MSIOs provide programmable drive strength, weak pull-up, and weak-pulldown.In single ended mode, the I/O pair operates as two separate I/Os named P and N. Some of these pins are also multiplexed with integrated peripherals (See Datasheet)", K7 MSIO81NB7 (io) "MSIOs provide programmable drive strength, weak pull-up, and weak-pulldown.In single ended mode, the I/O pair operates as two separate I/Os named P and N. Some of these pins are also multiplexed with integrated peripherals (See Datasheet)"
part H pins: AA22 JTAGSEL (in) "JTAG controller selection. If JTAGSEL is pulled High, an external TAP controller connects to the JTAG interface-system controller TAP. If JTAGSEL is pulled Low, an external TAP controller connects to either the Cortex-M3 (See Datasheet)", V20 JTAG_TMS/M3_TMS/M3_SWDIO (io), W20 JTAG_TCK/M3_TCK (in), W22 JTAG_TDI/M3_TDI (in), Y21 JTAG_TDO/M3_TDO/M3_SWO (out), Y22 JTAG_TRSTB/M3_TRSTB (in)
part I pins: AA20 XTLOSC_AUX_EXTAL "Crystal connection or external RC network.", AA21 XTLOSC_MAIN_EXTAL "Crystal connection or external RC network.", AB20 XTLOSC_AUX_XTAL "Input clock from the auxiliary crystal oscillator.", AB21 XTLOSC_MAIN_XTAL "Input clock from the main crystal oscillator.", D7 MDDR_IMP_CALIB_ECC, D22 FLASH_GOLDEN_N (in) "If pulled Low, this indicates that the device is to be re-programmed from an image in the external SPI flash attached to the SPI interface. If pulled High, the SPI is put into slave mode. Add an external pull-up resistor (See Datasheet)", P19 SC_SPI_SDO (out) "SPI data output", P20 SC_SPI_SS (in) "SPI slave select", R15 DEVRST_N (in) "Device reset; asserted Low and powered by VPP. It is a Schmitt trigger input. In unused condition, pull up to VPP through 10 KOhm resistor.", R20 SC_SPI_CLK (io) "SPI clock", R21 SC_SPI_SDI (in) "SPI data input"
part J pins: AA2 SERDES_0_TXD0_N (out) "Transmit data. SERDES differential negative output for each lane. Each SERDESIF consists of 4 TX signals.", AA4 SERDES_0_TXD1_N (out) "Transmit data. SERDES differential negative output for each lane. Each SERDESIF consists of 4 TX signals.", AA6 SERDES_0_TXD2_N (out) "Transmit data. SERDES differential negative output for each lane. Each SERDESIF consists of 4 TX signals.", AA8 SERDES_0_TXD3_N (out) "Transmit data. SERDES differential negative output for each lane. Each SERDESIF consists of 4 TX signals.", AB2 SERDES_0_TXD0_P (out) "Transmit data. SERDES differential positive output for each lane. Each SERDESIF consists of 4 TX signals.", AB4 SERDES_0_TXD1_P (out) "Transmit data. SERDES differential positive output for each lane. Each SERDESIF consists of 4 TX signals.", AB6 SERDES_0_TXD2_P (out) "Transmit data. SERDES differential positive output for each lane. Each SERDESIF consists of 4 TX signals.", AB8 SERDES_0_TXD3_P (out) "Transmit data. SERDES differential positive output for each lane. Each SERDESIF consists of 4 TX signals.", W1 SERDES_0_RXD0_P (in) "Receive data. SERDES differential positive input for each lane. Each SERDESIF consists of 4 RX signals.", W3 SERDES_0_RXD1_P (in) "Receive data. SERDES differential positive input for each lane. Each SERDESIF consists of 4 RX signals.", W5 SERDES_0_RXD2_P (in) "Receive data. SERDES differential positive input for each lane. Each SERDESIF consists of 4 RX signals.", W7 SERDES_0_RXD3_P (in) "Receive data. SERDES differential positive input for each lane. Each SERDESIF consists of 4 RX signals.", Y1 SERDES_0_RXD0_N (in) "Receive data. SERDES differential negative input for each lane. Each SERDESIF consists of 4 RX signals.", Y3 SERDES_0_RXD1_N (in) "Receive data. SERDES differential negative input for each lane. Each SERDESIF consists of 4 RX signals.", Y5 SERDES_0_RXD2_N (in) "Receive data. SERDES differential negative input for each lane. Each SERDESIF consists of 4 RX signals.", Y7 SERDES_0_RXD3_N (in) "Receive data. SERDES differential negative input for each lane. Each SERDESIF consists of 4 RX signals."
part K pins: P8 SERDES_0_VDD (power) "PCIe/PCS supply. It is a +1.2 V supply", R8 SERDES_0_L01_VDDAIO (power) "Tx/Rx analog I/O voltage. Low voltage power for Lane0 and Lane1 of SERDESIF0, located on the left side. It is a +1.2 V SERDES PMA supply.", T6 SERDES_0_PLL_VSSA (power) "VDDA to on-die VSSA high pass filter connection for PLL SERDES0. If unused, it must be grounded (VSS).", T8 SERDES_0_PLL_VDDA (power) "High supply voltage for PLL SERDES0. It can be +2.5 V or +3.3 V.", T9 SERDES_0_VDD (power) "PCIe/PCS supply. It is a +1.2 V supply", T10 SERDES_0_L23_VDDAIO (power) "Tx/Rx analog I/O voltage. Low voltage power for Lane2 and Lane3 of SERDESIF0, located on the right side. It is a +1.2 V SERDES PMA supply.", U5 SERDES_0_L01_REXT "External reference resistor connection to calibrate TX/RX termination value. Each SERDESIF consists of 2 REXT signals-one for Lane0 and Lane1, and another for Lane2 and Lane3.", U6 SERDES_0_L01_REFRET (power) "Local on-chip ground return path for SERDES_0_L01_VDDAPLL for Lane0 and Lane1 of SERDESIF0, located on the left side. If unused, it must be grounded (VSS).", U7 SERDES_0_L01_VDDAPLL (power) "Analog power for SERDES0 PLL of Lane0 and Lane1. In used condition, it must be connected to +2.5 V. In unused condition, it can be connected to either +2.5 V or VDD (1.2 V).", U8 SERDES_0_L23_VDDAPLL (power) "Analog power for SERDES0 PLL of Lane2 and Lane3. In used condition, it must be connected to +2.5 V. In unused condition, it can be connected to either +2.5 V or VDD (1.2 V).", V8 SERDES_0_L23_REXT "External reference resistor connection to calibrate TX/RX termination value. Each SERDESIF consists of 2 REXT signals-one for Lane0 and Lane1, and another for Lane2 and Lane3.", V9 SERDES_0_L23_REFRET (power) "Local on-chip ground return path for SERDES_0_L23_VDDAPLL for Lane2 and Lane3 of SERDESIF0, located on the right side. If unused, it must be grounded (VSS)."
part L pins: H15 CCC_NE0_PLL_VDDA (power) "Analog power pad for PLL0", H16 MSS_MDDR_PLL_VDDA (power) "Analog power pad for PLL of MDDR and MSS", H17 MSS_MDDR_PLL_VSSA (power) "Analog ground pad for PLL of MDDR and MSS", J15 CCC_NE0_PLL_VSSA (power) "VDDA to on-die VSSA high pass filter connection for PLL0", J16 CCC_NE1_PLL_VSSA (power) "VDDA to on-die VSSA high pass filter connection for PLL1", J17 CCC_NE1_PLL_VDDA (power) "Analog power pad for PLL1"
part M pins: G10 VREF0 (power) "Reference voltage for MDDR signals which are located in bank 0. When unused, VREF0 can be DNC or grounded (VSS).", G11 VREF0 (power) "Reference voltage for MDDR signals which are located in bank 0. When unused, VREF0 can be DNC or grounded (VSS).", G15 VREF0 (power) "Reference voltage for MDDR signals which are located in bank 0. When unused, VREF0 can be DNC or grounded (VSS).", H10 VDD (power) "DC core supply voltage. Must always power this pin.", J9 VDD (power) "DC core supply voltage. Must always power this pin.", J11 VDD (power) "DC core supply voltage. Must always power this pin.", J13 VDD (power) "DC core supply voltage. Must always power this pin.", K10 VDD (power) "DC core supply voltage. Must always power this pin.", K12 VDD (power) "DC core supply voltage. Must always power this pin.", K14 VDD (power) "DC core supply voltage. Must always power this pin.", L9 VDD (power) "DC core supply voltage. Must always power this pin.", L11 VDD (power) "DC core supply voltage. Must always power this pin.", L13 VDD (power) "DC core supply voltage. Must always power this pin.", L15 VPP (power) "Power supply for charge pumps (for normal operation and programming). Must always power this pin.", M10 VDD (power) "DC core supply voltage. Must always power this pin.", M12 VDD (power) "DC core supply voltage. Must always power this pin.", M14 VDD (power) "DC core supply voltage. Must always power this pin.", M15 VPPNVM (power) "Analog sense circuit supply of embedded nonvolatile memory (eNVM). Must be shorted to VPP.", N9 VDD (power) "DC core supply voltage. Must always power this pin.", N11 VDD (power) "DC core supply voltage. Must always power this pin.", N13 VDD (power) "DC core supply voltage. Must always power this pin.", P10 VDD (power) "DC core supply voltage. Must always power this pin.", P12 VDD (power) "DC core supply voltage. Must always power this pin.", P14 VDD (power) "DC core supply voltage. Must always power this pin.", P15 VPP (power) "Power supply for charge pumps (for normal operation and programming). Must always power this pin.", R11 VDD (power) "DC core supply voltage. Must always power this pin.", R13 VDD (power) "DC core supply voltage. Must always power this pin.", U9 VPP (power) "Power supply for charge pumps (for normal operation and programming). Must always power this pin."
part N pins: AA19 VDDI4 (power) "VDDI port 4, bank 4 power", AB12 VDDI4 (power) "VDDI port 4, bank 4 power", B8 VDDI0 (power) "VDDI port 0, bank 0 power", B12 VDDI0 (power) "VDDI port 0, bank 0 power", B16 VDDI0 (power) "VDDI port 0, bank 0 power", B20 VDDI0 (power) "VDDI port 0, bank 0 power", C2 VDDI7 (power) "VDDI port 7, bank 7 power", C6 VDDI0 (power) "VDDI port 0, bank 0 power", C10 VDDI0 (power) "VDDI port 0, bank 0 power", C14 VDDI0 (power) "VDDI port 0, bank 0 power", D17 VDDI0 (power) "VDDI port 0, bank 0 power", E11 VDDI0 (power) "VDDI port 0, bank 0 power", E20 VDDI1 (power) "VDDI port 1, bank 1 power", F1 VDDI7 (power) "VDDI port 7, bank 7 power", F7 VDDI0 (power) "VDDI port 0, bank 0 power", F9 VDDI0 (power) "VDDI port 0, bank 0 power", F13 VDDI0 (power) "VDDI port 0, bank 0 power", F22 VDDI1 (power) "VDDI port 1, bank 1 power", G4 VDDI7 (power) "VDDI port 7, bank 7 power", H12 VDDI0 (power) "VDDI port 0, bank 0 power", H14 VDDI0 (power) "VDDI port 0, bank 0 power", H18 VDDI1 (power) "VDDI port 1, bank 1 power", J7 VDDI7 (power) "VDDI port 7, bank 7 power", J21 VDDI1 (power) "VDDI port 1, bank 1 power", K3 VDDI6 (power) "VDDI port 6, bank 6 power", L6 VDDI6 (power) "VDDI port 6, bank 6 power", L17 VDDI2 (power) "VDDI port 2, bank 2 power", M20 VDDI2 (power) "VDDI port 2, bank 2 power", N2 VDDI6 (power) "VDDI port 6, bank 6 power", P5 VDDI6 (power) "VDDI port 6, bank 6 power", R19 VDDI2 (power) "VDDI port 2, bank 2 power", T14 VDDI4 (power) "VDDI port 4, bank 4 power", T22 VDDI2 (power) "VDDI port 2, bank 2 power", U2 VDDI5 (power) "VDDI port 5, bank 5 power", V10 VDDI4 (power) "VDDI port 4, bank 4 power", W13 VDDI4 (power) "VDDI port 4, bank 4 power", W21 VDDI3 (power) "VDDI port 3, bank 3 power", Y16 VDDI4 (power) "VDDI port 4, bank 4 power"
part O pins: A1 VSS (power) "Ground pad for core and I/Os. Must always connect to ground.", A22 VSS (power) "Ground pad for core and I/Os. Must always connect to ground.", AA1 VSS (power) "Ground pad for core and I/Os. Must always connect to ground.", AA3 VSS (power) "Ground pad for core and I/Os. Must always connect to ground.", AA5 VSS (power) "Ground pad for core and I/Os. Must always connect to ground.", AA7 VSS (power) "Ground pad for core and I/Os. Must always connect to ground.", AA9 VSS (power) "Ground pad for core and I/Os. Must always connect to ground.", AA14 VSS (power) "Ground pad for core and I/Os. Must always connect to ground.", AB1 VSS (power) "Ground pad for core and I/Os. Must always connect to ground.", AB3 VSS (power) "Ground pad for core and I/Os. Must always connect to ground.", AB5 VSS (power) "Ground pad for core and I/Os. Must always connect to ground.", AB7 VSS (power) "Ground pad for core and I/Os. Must always connect to ground.", AB9 VSS (power) "Ground pad for core and I/Os. Must always connect to ground.", AB16 VSS (power) "Ground pad for core and I/Os. Must always connect to ground.", AB22 VSS (power) "Ground pad for core and I/Os. Must always connect to ground.", B4 VSS (power) "Ground pad for core and I/Os. Must always connect to ground.", B10 VSS (power) "Ground pad for core and I/Os. Must always connect to ground.", B14 VSS (power) "Ground pad for core and I/Os. Must always connect to ground.", B18 VSS (power) "Ground pad for core and I/Os. Must always connect to ground.", C8 VSS (power) "Ground pad for core and I/Os. Must always connect to ground.", C12 VSS (power) "Ground pad for core and I/Os. Must always connect to ground.", C21 VSS (power) "Ground pad for core and I/Os. Must always connect to ground.", D15 VSS (power) "Ground pad for core and I/Os. Must always connect to ground.", D19 VSS (power) "Ground pad for core and I/Os. Must always connect to ground.", E3 VSS (power) "Ground pad for core and I/Os. Must always connect to ground.", E6 VSS (power) "Ground pad for core and I/Os. Must always connect to ground.", E9 VSS (power) "Ground pad for core and I/Os. Must always connect to ground.", E14 VSS (power) "Ground pad for core and I/Os. Must always connect to ground.", F11 VSS (power) "Ground pad for core and I/Os. Must always connect to ground.", F16 VSS (power) "Ground pad for core and I/Os. Must always connect to ground.", G20 VSS (power) "Ground pad for core and I/Os. Must always connect to ground.", H2 VSS (power) "Ground pad for core and I/Os. Must always connect to ground.", H9 VSS (power) "Ground pad for core and I/Os. Must always connect to ground.", H11 VSS (power) "Ground pad for core and I/Os. Must always connect to ground.", H13 VSS (power) "Ground pad for core and I/Os. Must always connect to ground.", J5 VSS (power) "Ground pad for core and I/Os. Must always connect to ground.", J10 VSS (power) "Ground pad for core and I/Os. Must always connect to ground.", J12 VSS (power) "Ground pad for core and I/Os. Must always connect to ground.", J14 VSS (power) "Ground pad for core and I/Os. Must always connect to ground.", K9 VSS (power) "Ground pad for core and I/Os. Must always connect to ground.", K11 VSS (power) "Ground pad for core and I/Os. Must always connect to ground.", K13 VSS (power) "Ground pad for core and I/Os. Must always connect to ground.", K19 VSS (power) "Ground pad for core and I/Os. Must always connect to ground.", L1 VSS (power) "Ground pad for core and I/Os. Must always connect to ground.", L10 VSS (power) "Ground pad for core and I/Os. Must always connect to ground.", L12 VSS (power) "Ground pad for core and I/Os. Must always connect to ground.", L14 VSS (power) "Ground pad for core and I/Os. Must always connect to ground.", L22 VSS (power) "Ground pad for core and I/Os. Must always connect to ground.", M4 VSS (power) "Ground pad for core and I/Os. Must always connect to ground.", M9 VSS (power) "Ground pad for core and I/Os. Must always connect to ground.", M11 VSS (power) "Ground pad for core and I/Os. Must always connect to ground.", M13 VSS (power) "Ground pad for core and I/Os. Must always connect to ground.", N7 VSS (power) "Ground pad for core and I/Os. Must always connect to ground.", N10 VSS (power) "Ground pad for core and I/Os. Must always connect to ground.", N12 VSS (power) "Ground pad for core and I/Os. Must always connect to ground.", N14 VSS (power) "Ground pad for core and I/Os. Must always connect to ground.", N15 VSSNVM (power) "Analog sense circuit ground of eNVM. Must always connect to ground.", N18 VSS (power) "Ground pad for core and I/Os. Must always connect to ground.", P9 VSS (power) "Ground pad for core and I/Os. Must always connect to ground.", P11 VSS (power) "Ground pad for core and I/Os. Must always connect to ground.", P13 VSS (power) "Ground pad for core and I/Os. Must always connect to ground.", P21 VSS (power) "Ground pad for core and I/Os. Must always connect to ground.", R5 VSS (power) "Ground pad for core and I/Os. Must always connect to ground.", R9 VSS (power) "Ground pad for core and I/Os. Must always connect to ground.", R10 VSS (power) "Ground pad for core and I/Os. Must always connect to ground.", R12 VSS (power) "Ground pad for core and I/Os. Must always connect to ground.", R14 VSS (power) "Ground pad for core and I/Os. Must always connect to ground.", T2 VSS (power) "Ground pad for core and I/Os. Must always connect to ground.", T15 VSS (power) "Ground pad for core and I/Os. Must always connect to ground.", T17 VSS (power) "Ground pad for core and I/Os. Must always connect to ground.", U12 VSS (power) "Ground pad for core and I/Os. Must always connect to ground.", U20 VSS (power) "Ground pad for core and I/Os. Must always connect to ground.", V1 VSS (power) "Ground pad for core and I/Os. Must always connect to ground.", V2 VSS (power) "Ground pad for core and I/Os. Must always connect to ground.", V3 VSS (power) "Ground pad for core and I/Os. Must always connect to ground.", V4 VSS (power) "Ground pad for core and I/Os. Must always connect to ground.", V5 VSS (power) "Ground pad for core and I/Os. Must always connect to ground.", V6 VSS (power) "Ground pad for core and I/Os. Must always connect to ground.", V7 VSS (power) "Ground pad for core and I/Os. Must always connect to ground.", V15 VSS (power) "Ground pad for core and I/Os. Must always connect to ground.", W2 VSS (power) "Ground pad for core and I/Os. Must always connect to ground.", W4 VSS (power) "Ground pad for core and I/Os. Must always connect to ground.", W6 VSS (power) "Ground pad for core and I/Os. Must always connect to ground.", W8 VSS (power) "Ground pad for core and I/Os. Must always connect to ground.", W18 VSS (power) "Ground pad for core and I/Os. Must always connect to ground.", Y2 VSS (power) "Ground pad for core and I/Os. Must always connect to ground.", Y4 VSS (power) "Ground pad for core and I/Os. Must always connect to ground.", Y6 VSS (power) "Ground pad for core and I/Os. Must always connect to ground.", Y8 VSS (power) "Ground pad for core and I/Os. Must always connect to ground.", Y11 VSS (power) "Ground pad for core and I/Os. Must always connect to ground."